# EAGLE library part DS1307 (library maxim)
DS1307 - 64 x 8, Serial, I²C Real-Time Clock DS1307 product page <https://www.maximintegrated.com/en/products/digital/real-time-clocks/DS1307.html> Using a DS1307 with a PIC Microcontroller <https://www.maximintegrated.com/en/app-notes/index.mvp/id/3921> General Description The DS1307 serial real-time clock (RTC) is a low-power, full binary-coded decimal (BCD) clock/calendar plus 56 bytes of NV SRAM. Address and data are transferred serially through an I2C, bidirectional bus. The clock/calendar provides seconds, minutes, hours, day, date, month, and year information. The end of the month date is automatically adjusted for months with fewer than 31 days, including corrections for leap year. The clock operates in either the 24-hour or 12-hour format with AM/PM indicator. The DS1307 has a built-in power-sense circuit that detects power failures and automatically switches to the backup supply. Timekeeping operation continues while the part operates from the backup supply. Key Features Completely Manages All Timekeeping Functions Real-Time Clock Counts Seconds, Minutes, Hours, Date of the Month, Month, Day of the Week, and Year with Leap-Year Compensation Valid Up to 2100 56-Byte, Battery-Backed, General-Purpose RAM with Unlimited Writes Programmable Square-Wave Output Signal Simple Serial Port Interfaces to Most Microcontrollers I2C Serial Interface Low Power Operation Extends Battery Backup Run Time Consumes Less than 500nA in Battery-Backup Mode with Oscillator Running Automatic Power-Fail Detect and Switch Circuitry 8-Pin DIP and 8-Pin SO Minimizes Required Space Optional Industrial Temperature Range: -40°C to +85°C Supports Operation in a Wide Range of Applications Underwriters Laboratories® (UL) Recognized
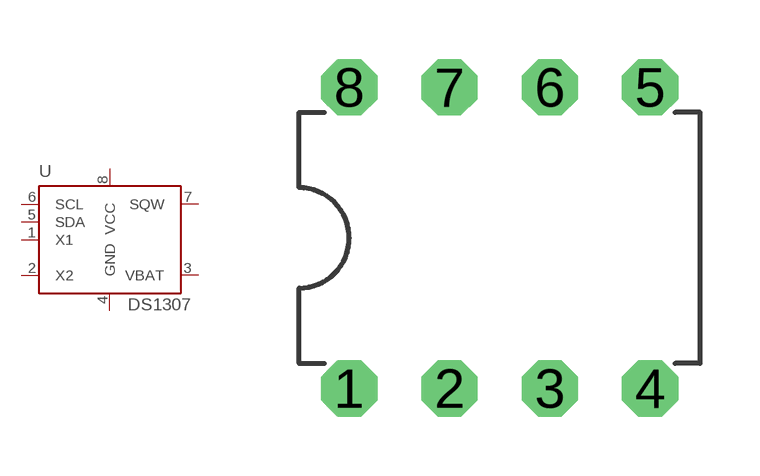
[diagram p0: symbol with the pads of DIL8; footprint DIL8]

Designator prefix U

## DS1307  [DIL8]
1  X1  in
2  X2  in
3  VBAT  pwr
4  GND  pwr
5  SDA
6  SCL
7  SQW
8  VCC  pwr

## Footprint DIL8 (pad centres in mm)
drill 0.813 pad 1.422 octagon: 1 -3.81,-3.81; 2 -1.27,-3.81; 3 1.27,-3.81; 4 3.81,-3.81; 5 3.81,3.81; 6 1.27,3.81; 7 -1.27,3.81; 8 -3.81,3.81